# Altium footprint library Diodes.PcbLib: 20 footprints (part 1 of 2)
Each footprint in its own frame and in the unit in brackets; x right, y up, seen from the top. Pads: shape width x height; smd on the part's side, far side on the other; paste and mask are expansions set on the pad; w line width, h text height; cw(c..) or ccw(c..) is an arc to the next point about the centre after c.
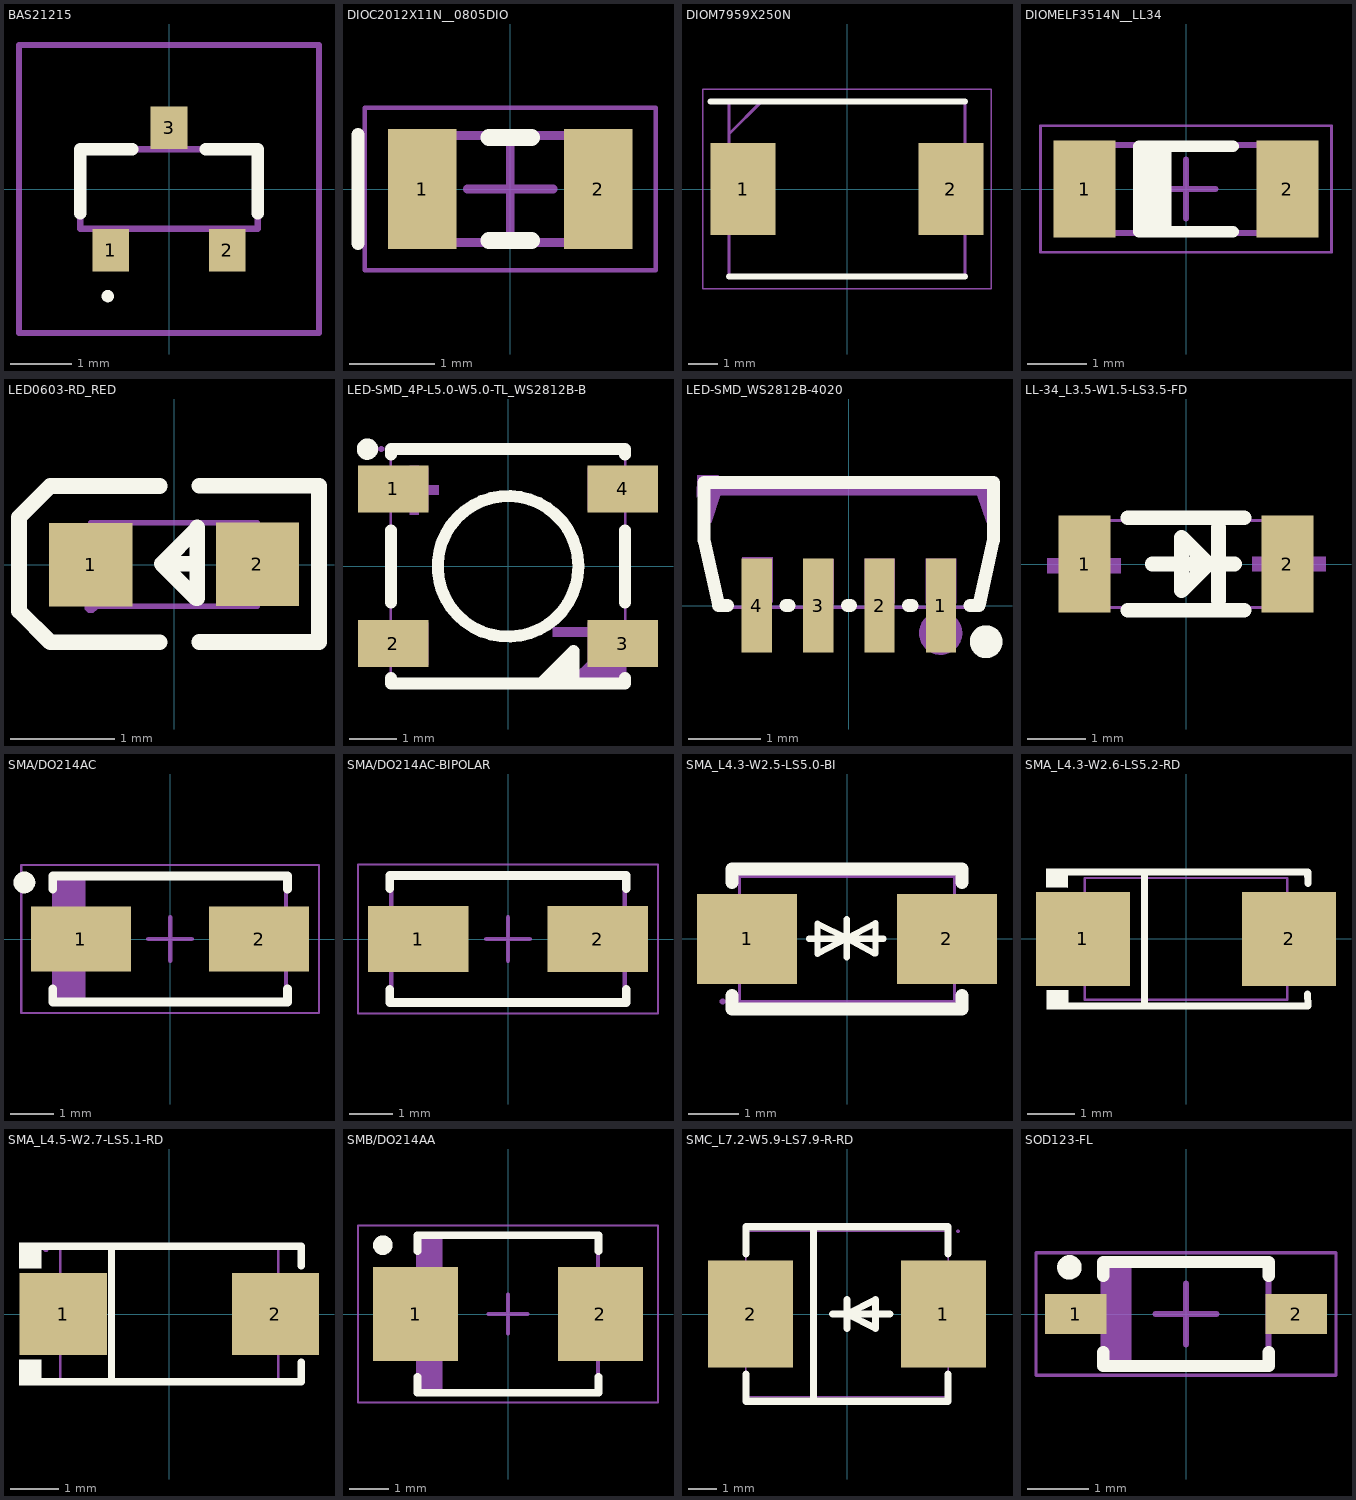
[diagram p0: the footprints below, top view; thin cyan lines are the x and y axes]

## BAS21215 [mm]
pads (3):
  rect 0.6x0.7 smd: 1(-0.95,-1) 2(0.95,-1) 3(0,1)
Top Overlay:
  lines w0.1: -1,-1.8 cw(c-1,-1.75) -1,-1.7 cw(c-1,-1.75) -1,-1.8
  lines w0.2: -1.45,-0.4 -1.45,0.65 -0.6,0.65 ; 0.6,0.65 1.45,0.65 1.45,-0.4
Mechanical 13:
  lines w0.1: -1.45,-0.65 -1.45,0.65 1.45,0.65 1.45,-0.65 -1.45,-0.65
Mechanical 15:
  lines w0.1: -2.45,-2.35 -2.45,2.35 2.45,2.35 2.45,-2.35 -2.45,-2.35
3D body "BAS21,215.stp": height 0.95, standoff 0, extent -1.452,-1.201 1.448,1.199

## DIOC2012X11N__0805DIO [mm] "Chip Diode, 2-Leads, Body 2.00x1.25mm, IPC Medium Density"
height 1.1
pads (2):
  rect 0.8x1.4 smd: 1(-1.025,0) 2(1.025,0)
Top Overlay:
  lines w0.152: -1.778,-0.635 -1.778,0.635
  lines w0.2: -0.25,-0.6 0.25,-0.6 ; -0.25,0.6 0.25,0.6
Mechanical 13:
  lines w0.1: -1,-0.625 -1,0.625 1,0.625 1,-0.625 -1,-0.625
Mechanical 15:
  lines w0.05: -1.7,-0.95 -1.7,0.95 1.7,0.95 1.7,-0.95 -1.7,-0.95
  lines w0.1: -0.5,0 0.5,0 ; 0,-0.5 0,0.5
3D body "0805 Red.step": height 0.78, standoff 0, extent -1,-0.625 1,0.625

## DIOM7959X250N [mm]
pads (2):
  rect 2.2x3.1 smd: 1(-3.5,0) 2(3.5,0)
Top Overlay:
  lines w0.2: -4.6,2.952 3.97,2.952 ; -3.97,-2.952 3.97,-2.952
Mechanical 13:
  lines w0.1: -3.97,1.852 -2.87,2.952 ; -3.97,-2.952 -3.97,2.952 3.97,2.952 3.97,-2.952 -3.97,-2.952
Mechanical 15:
  lines w0.05: -4.85,-3.36 -4.85,3.36 4.85,3.36 4.85,-3.36 -4.85,-3.36
3D body "B540C-13-F.stp": height 2.5, standoff 0, extent -3.97,-2.953 3.97,2.953

## DIOMELF3514N__LL34 [mm] "MELF Diode, 2-Leads, Body 3.50x1.45mm, IPC Medium Density"
height 1.5
pads (2):
  rect 1.05x1.65 smd: 1(-1.725,0) 2(1.725,0)
Top Overlay:
  rectangle: -0.8,-0.725 -0.25,0.725
  lines w0.2: 0.8,-0.725 -0.8,-0.725 -0.8,0.725 0.8,0.725
Mechanical 13:
  rectangle: -1.8,-0.75 -1.397,0
  rectangle: -1.8,0 -1.397,0.75
  lines w0.1: -1.8,-0.75 1.8,-0.75 1.8,0.75 -1.8,0.75 -1.8,-0.75
Mechanical 15:
  lines w0.05: -2.475,-1.075 2.475,-1.075 2.475,1.075 -2.475,1.075 -2.475,-1.075
  lines w0.1: -0.5,0 0.5,0 ; 0,-0.5 0,0.5
3D body "LL34-MELF3515.step": height 1.53, standoff 0.03, extent -1.75,-0.75 1.75,0.75

## LED0603-RD_RED [mm]
pads (2):
  rect 0.8x0.8 smd: 1(-0.8,-0.003) 2(0.8,0.003)
Top Overlay:
  lines w0.15: -0.14,-0.746 -1.19,-0.746 -1.49,-0.446 -1.49,-0.346 -1.49,0.354 -1.49,0.454 -1.19,0.754 -0.14,0.754 ; 0.22,0.007 -0.12,0.007 ; 0.24,-0.744 1.39,-0.744 ; 0.24,0.757 1.39,0.757 1.39,-0.723 ; -0.12,0.007 0.21,-0.323 0.22,-0.323 0.22,0.357 0.22,0.347 -0.12,0.007
Mechanical 6:
  region: 0.529,0.068 1.069,0.068 1.069,-0.062 0.529,-0.062
  region: 0.735,-0.267 0.735,0.273 0.865,0.273 0.865,-0.267
  region: -1.07,0.062 -0.53,0.062 -0.53,-0.068 -1.07,-0.068
Mechanical 15:
  region: -0.74,-0.403 -0.741,-0.379 -0.775,-0.346 -0.824,-0.346 -0.858,-0.379 -0.859,-0.403 -0.858,-0.428 -0.824,-0.461 -0.775,-0.461 -0.741,-0.428 -0.74,-0.403
  region: 0.5,-0.396 0.5,0.404 0.8,0.404 0.8,-0.396
  region: -0.8,-0.403 -0.8,0.397 -0.5,0.397 -0.5,-0.403
  lines w0.051: -0.8,-0.4 -0.8,0.4 0.8,0.4 0.8,-0.4 -0.8,-0.4

## LED-SMD_4P-L5.0-W5.0-TL_WS2812B-B [mm]
pads (4):
  rect 1.5x1 smd: 1(-2.45,1.65) 2(-2.45,-1.65) 3(2.45,-1.65) 4(2.45,1.65)
Top Overlay:
  circle w0.254: c-3,2.5 r0.1
  circle w0.254: c0.001,0 r1.5
  region: 1.4,-1.8 1.4,-2.4 1.3,-2.5 0.7,-2.5
  lines w0.254: -2.5,-2.38 -2.5,-2.5 2.5,-2.5 2.5,-2.38 ; -2.5,-0.77 -2.5,0.77 ; -2.5,2.38 -2.5,2.5 2.5,2.5 2.5,2.38 ; 2.5,-0.77 2.5,0.77 ; 0.7,-2.5 1.4,-1.8 1.4,-2.5 0.7,-2.5
Mechanical 6:
  circle w0.24: c-2.8,1.9 r0.12
  region: -2.1,1.1 -2.1,2.15 -1.9,2.15 -1.9,1.1
  region: 2,-1.5 0.95,-1.5 0.95,-1.3 2,-1.3
  region: -2.525,1.725 -1.475,1.725 -1.475,1.525 -2.525,1.525
  region: 2.5,-1.3 2.5,-2.5 1.2,-2.5
Mechanical 15:
  region: -2.704,2.1 -1.704,2.1 -1.704,1.2 -2.704,1.2
  region: -2.704,-1.2 -1.704,-1.2 -1.704,-2.1 -2.704,-2.1
  region: 2.704,-2.1 1.704,-2.1 1.704,-1.2 2.704,-1.2
  region: 2.704,1.2 1.704,1.2 1.704,2.1 2.704,2.1
  region: -2.644,2.5 -2.644,2.525 -2.679,2.56 -2.728,2.56 -2.764,2.525 -2.764,2.5 -2.764,2.475 -2.728,2.44 -2.679,2.44 -2.644,2.475 -2.644,2.5
  lines w0.051: -2.5,-2.5 -2.5,2.5 2.5,2.5 2.5,-2.5 -2.5,-2.5

## LED-SMD_WS2812B-4020 [mm]
pads (4):
  rect 0.42x1.3 smd: 1(1.275,0) 2(0.425,0) 3(-0.425,0) 4(-1.275,0)
Top Overlay:
  circle w0.254: c1.9,-0.5 r0.1
  lines w0.18: -1.679,0 -1.8,0 -2,0.9 -2,1.7 2,1.7 2,0.9 1.8,0 1.679,0 ; -0.871,0 -0.829,0 ; -0.021,0 0.021,0 ; 0.829,0 0.871,0
Mechanical 6:
  circle w0.3: c1.27,-0.381 r0.15
  region: -2.032,1.143 -1.905,1.651 1.905,1.651 2.032,1.143 1.905,1.143 1.778,1.524 -1.778,1.524 -1.905,1.143
  region: -1.8,1.8 -2.1,1.8 -2.1,1.5
Mechanical 15:
  region: 2.05,1.678 2.05,1.703 2.015,1.738 1.965,1.738 1.93,1.703 1.93,1.678 1.93,1.653 1.965,1.618 2.015,1.618 2.05,1.653 2.05,1.678
  region: -1.056,0.048 -1.476,0.048 -1.476,0.668 -1.056,0.668
  region: -0.209,0.019 -0.629,0.019 -0.629,0.639 -0.209,0.639
  region: 0.638,0.029 0.218,0.029 0.218,0.649 0.638,0.649
  region: 1.065,0.649 1.485,0.649 1.485,0.029 1.065,0.029
  lines w0.051: -1.99,0.816 -1.957,1.676 1.947,1.678 1.99,0.825 1.84,-0.024 -1.83,-0.025 -1.99,0.816

## LL-34_L3.5-W1.5-LS3.5-FD [mm]
pads (2):
  rect 0.9x1.676 smd: 1(-1.75,0) 2(1.75,0)
Top Overlay:
  lines w0.254: -1,-0.8 1,-0.8 ; -1,0.8 1,0.8 ; -0.584,0 0.838,0 ; 0.559,-0.635 0.559,0.635 ; -0.076,-0.457 0.381,0 -0.076,0.457 -0.076,-0.457
Mechanical 6:
  region: 1.143,-0.127 1.143,0.127 2.413,0.127 2.413,-0.127 1.778,-0.127
  region: -1.651,-0.635 -1.905,-0.635 -1.905,0.635 -1.651,0.635 -1.651,0
  region: -2.397,-0.156 -2.397,0.098 -1.127,0.098 -1.127,-0.156 -1.762,-0.156
Mechanical 15:
  region: -1.6,-0.7 -1.6,-0.659 -1.659,-0.601 -1.741,-0.601 -1.8,-0.659 -1.8,-0.7 -1.8,-0.741 -1.741,-0.799 -1.659,-0.799 -1.6,-0.741 -1.6,-0.7
  region: -1.35,-0.75 -1.75,-0.75 -1.75,0.75 -1.35,0.75
  region: 1.75,-0.75 1.35,-0.75 1.35,0.75 1.75,0.75
  lines w0.051: -1.75,-0.75 1.75,-0.75 1.75,0.75 -1.75,0.75 -1.75,-0.75

## SMA/DO214AC [mm] "Molded Diode, 2-Leads, Body 5.14x2.56mm, IPC Medium Density"
height 2.5
pads (2):
  rect 2.3x1.5 smd: 1(-2.05,0) 2(2.05,0)
Top Overlay:
  circle w0.25: c-3.35,1.3 r0.125
  lines w0.2: -2.7,-1.15 -2.7,-1.45 2.7,-1.45 2.7,-1.15 ; -2.7,1.15 -2.7,1.45 2.7,1.45 2.7,1.15
Mechanical 13:
  rectangle: -2.665,-1.415 -1.948,1.415
  lines w0.1: -2.665,-1.415 -2.665,1.415 2.665,1.415 2.665,-1.415 -2.665,-1.415
Mechanical 15:
  lines w0.05: -3.425,-1.7 -3.425,1.7 3.425,1.7 3.425,-1.7 -3.425,-1.7
  lines w0.1: -0.5,0 0.5,0 ; 0,-0.5 0,0.5
3D body "SMA (DO-214AC).STEP": height 2.3, standoff 0, extent -2.6,-1.45 2.6,1.45

## SMA/DO214AC-BIPOLAR [mm] "Molded Diode, 2-Leads, Body 5.14x2.56mm, IPC Medium Density"
height 2.5
pads (2):
  rect 2.3x1.5 smd: 1(-2.05,0) 2(2.05,0)
Top Overlay:
  lines w0.2: -2.7,-1.15 -2.7,-1.45 2.7,-1.45 2.7,-1.15 ; -2.7,1.15 -2.7,1.45 2.7,1.45 2.7,1.15
Mechanical 13:
  lines w0.1: -2.665,-1.415 -2.665,1.415 2.665,1.415 2.665,-1.415 -2.665,-1.415
Mechanical 15:
  lines w0.05: -3.425,-1.7 -3.425,1.7 3.425,1.7 3.425,-1.7 -3.425,-1.7
  lines w0.1: -0.5,0 0.5,0 ; 0,-0.5 0,0.5
3D body "SMA (DO-214AC).STEP": height 2.3, standoff 0, extent -2.6,-1.45 2.6,1.45

## SMA_L4.3-W2.5-LS5.0-BI [mm]
pads (2):
  rect 2x1.8 smd: 1(-2,0) 2(2,0)
Top Overlay:
  lines w0.127: -0.76,0.003 0.73,0.003 ; -0.59,-0.297 -0.59,0.303 -0.002,0.014 ; -0.576,-0.284 -0.004,0.015 ; -0.002,-0.367 -0.002,0.014 ; -0.002,0.395 -0.002,0.014 ; 0.54,-0.287 -0.002,0.014 ; 0.57,-0.287 0.57,0.313 -0.002,0.014
  lines w0.254: -2.3,-1.131 -2.3,-1.4 2.3,-1.4 2.3,-1.131 ; -2.3,1.131 -2.3,1.4 2.3,1.4 2.3,1.131
Mechanical 15:
  region: -2.425,-1.25 -2.426,-1.226 -2.46,-1.191 -2.509,-1.191 -2.544,-1.226 -2.545,-1.25 -2.544,-1.275 -2.509,-1.309 -2.46,-1.309 -2.426,-1.275 -2.425,-1.25
  region: -2.485,-0.75 -2.485,0.75 -1.185,0.75 -1.185,-0.75
  region: 1.185,-0.75 1.185,0.75 2.485,0.75 2.485,-0.75
  lines w0.051: -2.15,-1.25 -2.15,1.25 2.15,1.25 2.15,-1.25 -2.15,-1.25

## SMA_L4.3-W2.6-LS5.2-RD [mm]
pads (2):
  rect 2x2 smd: 1(-2.2,0) 2(2.2,0)
Top Overlay:
  region: -2.52,1.502 -2.521,1.096 -2.981,1.1 -2.977,1.502
  region: -2.512,-1.096 -2.513,-1.503 -2.973,-1.498 -2.969,-1.096
  lines w0.152: -2.596,-1.426 2.596,-1.426 ; -2.596,1.426 2.596,1.426 2.603,1.187 ; -0.884,-1.426 -0.884,1.426 ; 2.593,-1.176 2.6,-1.415
Mechanical 6:
  region: -2.317,-0.101 -2.317,0.101 -1.507,0.101 -1.507,-0.101
  region: 2.29,-0.09 2.29,0.112 1.48,0.112 1.48,-0.09
  region: 2.014,-0.675 2.014,0.675 1.811,0.675 1.811,-0.675
Mechanical 15:
  region: -2.545,-1.3 -2.545,-1.275 -2.58,-1.24 -2.63,-1.24 -2.665,-1.275 -2.665,-1.3 -2.665,-1.325 -2.63,-1.36 -2.58,-1.36 -2.545,-1.325 -2.545,-1.3
  region: 2.605,0.725 2.605,-0.725 1.48,-0.725 1.48,0.725
  region: -1.48,0.725 -1.48,-0.725 -2.605,-0.725 -2.605,0.725
  lines w0.051: -2.16,-1.3 -2.16,1.3 2.16,1.3 2.16,-1.3 -2.16,-1.3

## SMA_L4.5-W2.7-LS5.1-RD [mm]
pads (2):
  rect 1.8x1.7 smd: 1(-2.193,0) 2(2.193,0)
Top Overlay:
  region: -2.65,1.477 -2.65,0.949 -3.107,0.949 -3.107,1.477
  region: -2.65,-1.477 -2.65,-0.949 -3.107,-0.949 -3.107,-1.477
  lines w0.152: -2.726,-1.401 2.726,-1.401 2.726,-1 ; -2.726,1.401 2.726,1.401 2.726,1 ; -1.197,-1.401 -1.197,1.401
Mechanical 6:
  region: -2.451,-0.099 -2.451,0.099 -1.656,0.099 -1.656,-0.099
  region: 2.451,-0.099 2.451,0.099 1.656,0.099 1.656,-0.099
  region: 2.153,-0.663 2.153,0.663 1.954,0.663 1.954,-0.663
Mechanical 15:
  region: -2.493,1.35 -2.493,1.375 -2.529,1.41 -2.578,1.41 -2.613,1.375 -2.613,1.35 -2.613,1.325 -2.578,1.29 -2.528,1.29 -2.493,1.325 -2.493,1.35
  region: -1.353,0.725 -1.353,-0.725 -2.553,-0.725 -2.553,0.725
  region: 1.348,-0.725 1.348,0.725 2.548,0.725 2.548,-0.725
  lines w0.051: -2.25,-1.35 -2.25,1.35 2.25,1.35 2.25,-1.35 -2.25,-1.35

## SMB/DO214AA [mm] "Molded Diode, 2-Leads, Body 4.31x3.62mm, IPC Medium Density"
height 2.47
pads (2):
  rect 2.16x2.4 smd: 1(-2.35,0) 2(2.35,0)
Top Overlay:
  circle w0.25: c-3.18,1.75 r0.125
  lines w0.2: -2.3,-1.6 -2.3,-2 2.3,-2 2.3,-1.6 ; -2.3,1.6 -2.3,2 2.3,2 2.3,1.6
Mechanical 13:
  rectangle: -2.285,-1.97 -1.67,1.97
  lines w0.1: -2.285,-1.97 2.285,-1.97 2.285,1.97 -2.285,1.97 -2.285,-1.97
Mechanical 15:
  lines w0.05: -3.812,-2.25 -3.05,-2.25 3.05,-2.25 3.812,-2.25 3.812,2.25 3.05,2.25 -3.05,2.25 -3.812,2.25 -3.812,-2.25
  lines w0.1: -0.5,0 0.5,0 ; 0,-0.5 0,0.5
3D body "SMB (DO-214AA).STEP": height 2.5, standoff 0, extent -2.7,-1.95 2.7,1.95

## SMC_L7.2-W5.9-LS7.9-R-RD [mm]
pads (2):
  rect 3.03x3.82 smd: 1(3.435,0) 2(-3.435,0)
Top Overlay:
  lines w0.254: -3.6,-2.141 -3.6,-3.11 3.6,-3.11 3.6,-2.141 ; -3.6,2.141 -3.6,3.11 3.6,3.11 3.6,2.141 ; -1.192,-3.11 -1.192,3.11 ; -0.508,0 1.524,0 ; 0,-0.508 0,0.508 0,0 ; 0,0 1.016,-0.508 1.016,0.508 0,0
Mechanical 6:
  region: -4.633,-0.187 -2.383,-0.187 -2.383,0.113 -4.633,0.113 -4.633,0.063
  region: 3.399,1.182 3.399,-1.068 3.699,-1.068 3.699,1.182 3.649,1.182
  region: 2.413,0 4.663,0 4.663,0.3 2.413,0.3 2.413,0.25
Mechanical 15:
  region: -2.75,1.5 -3.95,1.5 -3.95,-1.5 -2.75,-1.5
  region: 2.75,-1.5 3.95,-1.5 3.95,1.5 2.75,1.5
  region: 4.01,2.95 4.01,2.975 3.975,3.01 3.925,3.01 3.89,2.975 3.89,2.95 3.89,2.925 3.925,2.89 3.975,2.89 4.01,2.925 4.01,2.95
  lines w0.051: -3.6,-2.95 3.6,-2.95 3.6,2.95 -3.6,2.95 -3.6,-2.95

## SOD123-FL [mm] "SODFL, 2-Leads, Body 1.60x3.70mm, IPC Medium Density"
height 1.15
pads (2):
  rect 1x0.65 smd: 1(-1.8,0) 2(1.8,0)
Top Overlay:
  circle w0.2: c-1.905,0.762 r0.1
  lines w0.2: -1.35,-0.625 -1.35,-0.85 1.35,-0.85 1.35,-0.625 ; -1.35,0.625 -1.35,0.85 1.35,0.85 1.35,0.625
Mechanical 13:
  rectangle: -1.35,-0.825 -0.889,0.825
  lines w0.1: -1.35,-0.825 -1.35,0.825 1.35,0.825 1.35,-0.825 -1.35,-0.825
Mechanical 15:
  lines w0.05: -2.45,-1 -2.45,1 2.45,1 2.45,-1 -2.45,-1
  lines w0.1: -0.5,0 0.5,0 ; 0,-0.5 0,0.5
3D body "User Library-SOD-123FL CASE 498.STEP": height 0.95, standoff 0, extent -1.8,-0.825 1.8,0.825